# Altium footprint library pins.PcbLib: 69 footprints (part 2 of 5)
Each footprint in its own frame and in the unit in brackets; x right, y up, seen from the top. Pads: shape width x height; smd on the part's side, far side on the other; paste and mask are expansions set on the pad; w line width, h text height; cw(c..) or ccw(c..) is an arc to the next point about the centre after c.
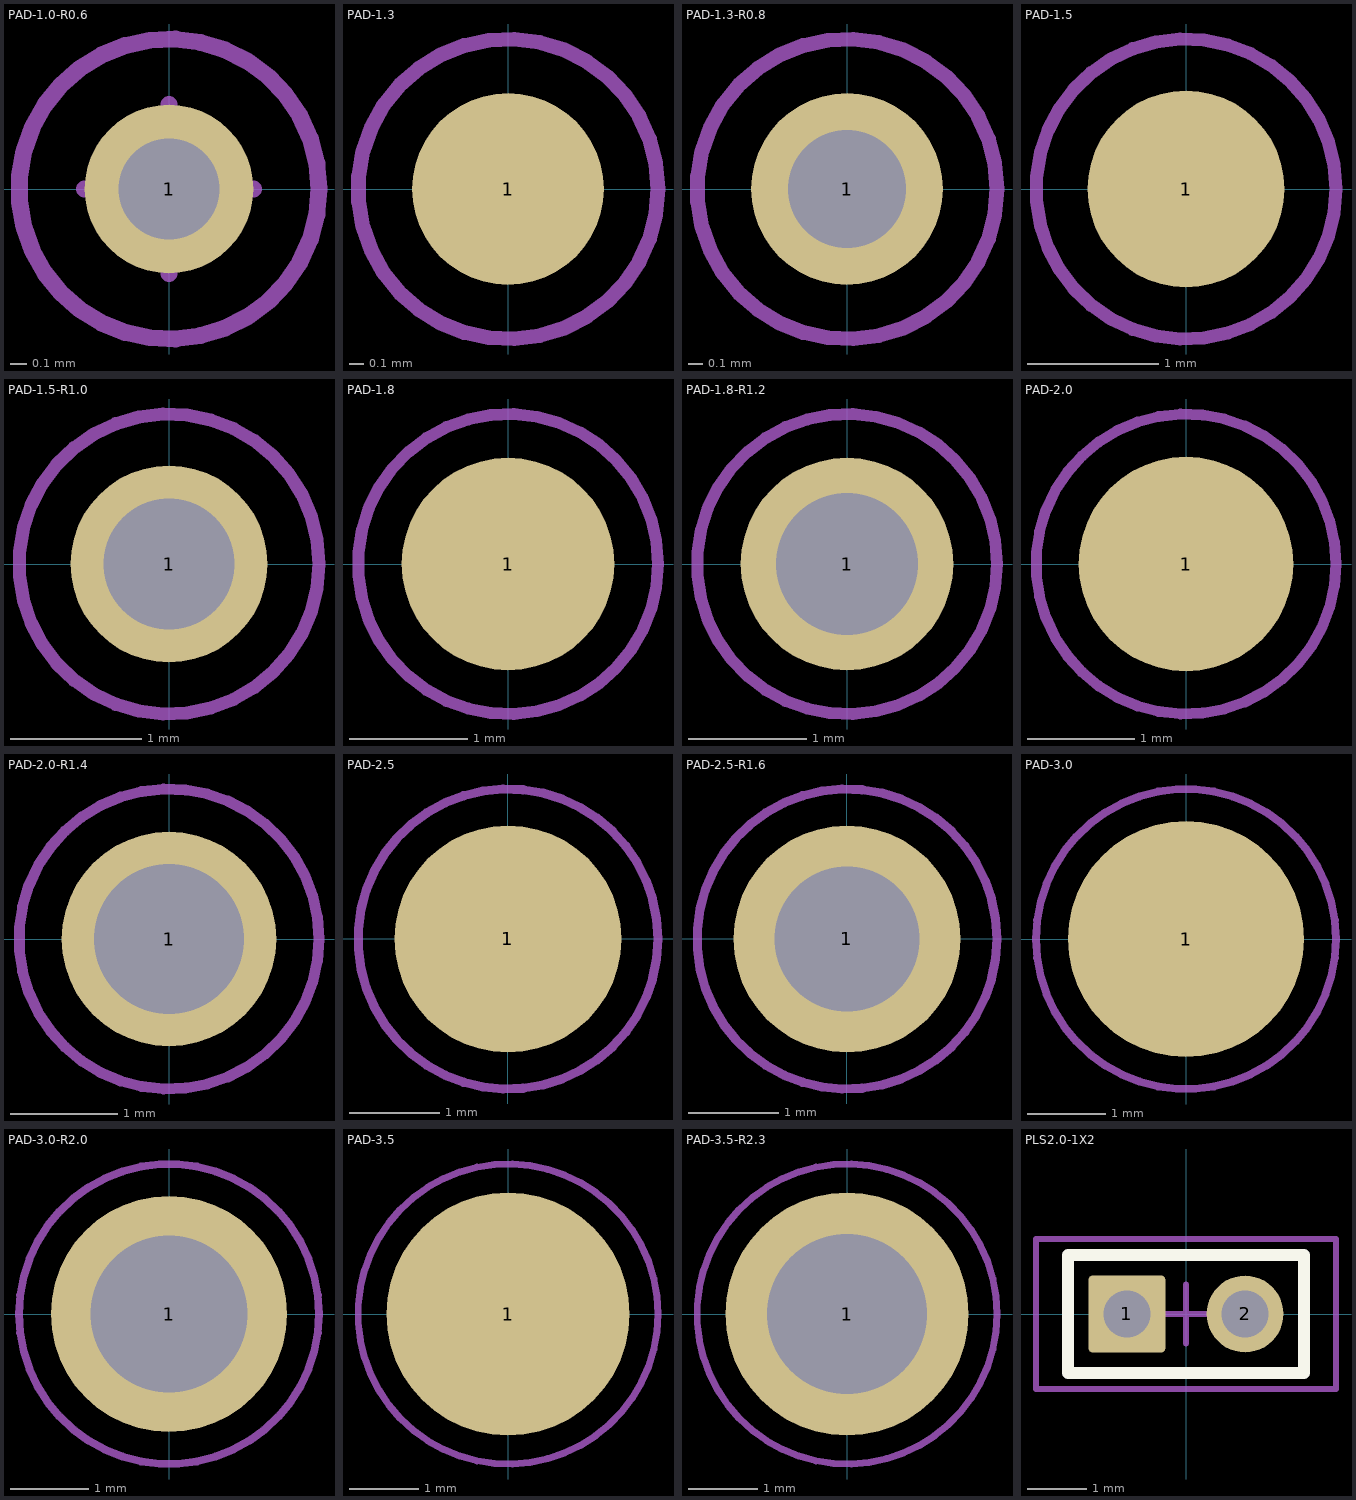
[diagram p1: the footprints below, top view; thin cyan lines are the x and y axes]

## PAD-1.0-R0.6 [mm]
pads (1):
  round 1 hole 0.6: 1(0,0)
Mechanical 13:
  circle w0.1: c0,0 r0.889
  text ".Designator" at -0.508,-0.381 h0.7
Mechanical 15:
  circle w0.05: c0,0 r0.889
  lines w0.1: -0.5,0 0.5,0 ; 0,-0.5 0,0.5

## PAD-1.3 [mm]
pads (1):
  round 1.3 smd: 1(0,0)
Mechanical 13:
  circle w0.1: c0,0 r1.016
  text ".Designator" at -0.508,-0.381 h0.7
Mechanical 15:
  circle w0.05: c0,0 r1.016
  lines w0.1: -0.5,0 0.5,0 ; 0,-0.5 0,0.5

## PAD-1.3-R0.8 [mm]
pads (1):
  round 1.3 hole 0.8: 1(0,0)
Mechanical 13:
  circle w0.1: c0,0 r1.016
  text ".Designator" at -0.508,-0.381 h0.7
Mechanical 15:
  circle w0.05: c0,0 r1.016
  lines w0.1: -0.5,0 0.5,0 ; 0,-0.5 0,0.5

## PAD-1.5 [mm]
pads (1):
  round 1.5 smd: 1(0,0)
Mechanical 13:
  circle w0.1: c0,0 r1.143
  text ".Designator" at -0.508,-0.381 h0.7
Mechanical 15:
  circle w0.05: c0,0 r1.143
  lines w0.1: -0.5,0 0.5,0 ; 0,-0.5 0,0.5

## PAD-1.5-R1.0 [mm]
pads (1):
  round 1.5 hole 1: 1(0,0)
Mechanical 13:
  circle w0.1: c0,0 r1.143
  text ".Designator" at -0.508,-0.381 h0.7
Mechanical 15:
  circle w0.05: c0,0 r1.143
  lines w0.1: -0.5,0 0.5,0 ; 0,-0.5 0,0.5

## PAD-1.8 [mm]
pads (1):
  round 1.8 smd: 1(0,0)
Mechanical 13:
  circle w0.1: c0,0 r1.27
  text ".Designator" at -0.635,-0.508 h0.9
Mechanical 15:
  circle w0.05: c0,0 r1.27
  lines w0.1: -0.5,0 0.5,0 ; 0,-0.5 0,0.5

## PAD-1.8-R1.2 [mm]
pads (1):
  round 1.8 hole 1.2: 1(0,0)
Mechanical 13:
  circle w0.1: c0,0 r1.27
  text ".Designator" at -0.635,-0.508 h0.9
Mechanical 15:
  circle w0.05: c0,0 r1.27
  lines w0.1: -0.5,0 0.5,0 ; 0,-0.5 0,0.5

## PAD-2.0 [mm]
pads (1):
  round 2 smd: 1(0,0)
Mechanical 13:
  circle w0.1: c0,0 r1.397
  text ".Designator" at -0.635,-0.508 h0.9
Mechanical 15:
  circle w0.05: c0,0 r1.397
  lines w0.1: -0.5,0 0.5,0 ; 0,-0.5 0,0.5

## PAD-2.0-R1.4 [mm]
pads (1):
  round 2 hole 1.4: 1(0,0)
Mechanical 13:
  circle w0.1: c0,0 r1.397
  text ".Designator" at -0.635,-0.508 h0.9
Mechanical 15:
  circle w0.05: c0,0 r1.397
  lines w0.1: -0.5,0 0.5,0 ; 0,-0.5 0,0.5

## PAD-2.5 [mm]
pads (1):
  round 2.5 smd: 1(0,0)
Mechanical 13:
  circle w0.1: c0,0 r1.651
  text ".Designator" at -0.762,-0.635 h1.2
Mechanical 15:
  circle w0.05: c0,0 r1.651
  lines w0.1: -0.5,0 0.5,0 ; 0,-0.5 0,0.5

## PAD-2.5-R1.6 [mm]
pads (1):
  round 2.5 hole 1.6: 1(0,0)
Mechanical 13:
  circle w0.1: c0,0 r1.651
  text ".Designator" at -0.889,-0.635 h1.2
Mechanical 15:
  circle w0.05: c0,0 r1.651
  lines w0.1: -0.5,0 0.5,0 ; 0,-0.5 0,0.5

## PAD-3.0 [mm]
pads (1):
  round 3 smd: 1(0,0)
Mechanical 13:
  circle w0.1: c0,0 r1.905
  text ".Designator" at -1.016,-0.639 h1.2
Mechanical 15:
  circle w0.05: c0,0 r1.905
  lines w0.1: -0.5,0 0.5,0 ; 0,-0.5 0,0.5

## PAD-3.0-R2.0 [mm]
pads (1):
  round 3 hole 2: 1(0,0)
Mechanical 13:
  circle w0.1: c0,0 r1.905
  text ".Designator" at -1.016,-0.639 h1.2
Mechanical 15:
  circle w0.05: c0,0 r1.905
  lines w0.1: -0.5,0 0.5,0 ; 0,-0.5 0,0.5

## PAD-3.5 [mm]
pads (1):
  round 3.5 smd: 1(0,0)
Mechanical 13:
  circle w0.1: c0,0 r2.159
  text ".Designator" at -1.016,-0.639 h1.2
Mechanical 15:
  circle w0.05: c0,0 r2.159
  lines w0.1: -0.5,0 0.5,0 ; 0,-0.5 0,0.5

## PAD-3.5-R2.3 [mm]
pads (1):
  round 3.5 hole 2.3: 1(0,0)
Mechanical 13:
  circle w0.1: c0,0 r2.159
  text ".Designator" at -1.016,-0.639 h1.2
Mechanical 15:
  circle w0.05: c0,0 r2.159
  lines w0.1: -0.5,0 0.5,0 ; 0,-0.5 0,0.5

## PLS2.0-1X2 [mm]
pads (2):
  rrect10% 1.3x1.3 hole 0.8: 1(-1,0)
  round 1.3 hole 0.8: 2(1,0)
Top Overlay:
  lines w0.2: -2,-1 2,-1 2,1 -2,1 -2,-1
Mechanical 13:
  lines w0.1: -2.54,-1.27 -2.54,1.27 2.54,1.27 2.54,-1.27 -2.54,-1.27
  text ".Designator" at -1.016,-0.639 h1.2
Mechanical 15:
  lines w0.05: -2.54,-1.27 2.54,-1.27 2.54,1.27 -2.54,1.27 -2.54,-1.27
  lines w0.1: -0.5,0 0.5,0 ; 0,-0.5 0,0.5
3D body: height 6.5, standoff -2.7, extent -1.254,-0.254 -0.746,0.254
3D body: height 6.5, standoff -2.7, extent 0.746,-0.254 1.254,0.254
3D body: height 1, standoff 0, extent -2,-1 2,1